# Altium schematic symbol library PC817.SchLib: 1 symbol
Pins are listed as number, name and electrical type; pins without a type are passive.

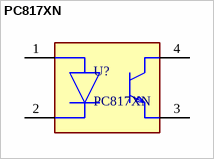
[diagram p0: symbol PC817XN]

## PC817XN
designator U?
footprint FP-PC817XNNIP0F-MFG
pins: 1 A, 2 C, 3 E, 4 C